# EAGLE library part MIC29302WU (library Deegou-Power-ICs)
IC REG LDO ADJ 3A TO263-5
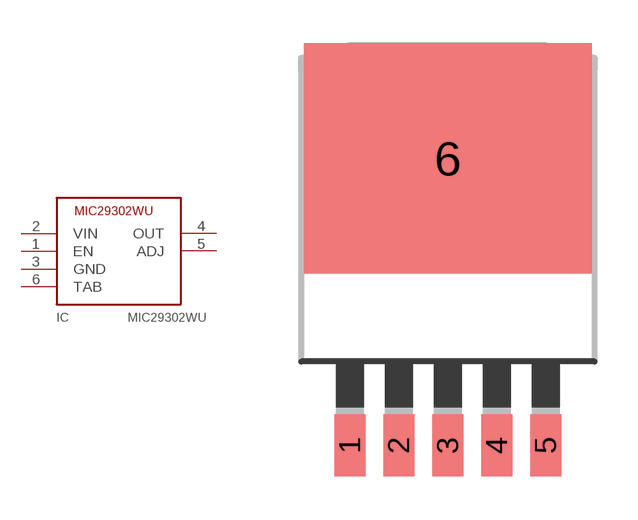
[diagram p0: symbol with the pads of TO263-5; footprint TO263-5]

Designator prefix IC

## MIC29302WU (MFR: Microchip; MPN: MIC29302WU; VALUE: MIC29302WU)  [TO263-5]
1  EN
2  VIN
3  GND
4  OUT
5  ADJ
6  TAB

## Footprint TO263-5 (pad centres in mm)
smd 1.067 x 2.159: 1 -3.404,-5.791; 2 -1.702,-5.791; 3 0,-5.791; 4 1.702,-5.791; 5 3.404,-5.791
smd 10 x 8: 6 0,4.191